# Altium integrated library Linear Technology Power Management Switching Regulator LTC1174-LTC3901.IntLib: 2647 symbols (part 183 of 364)
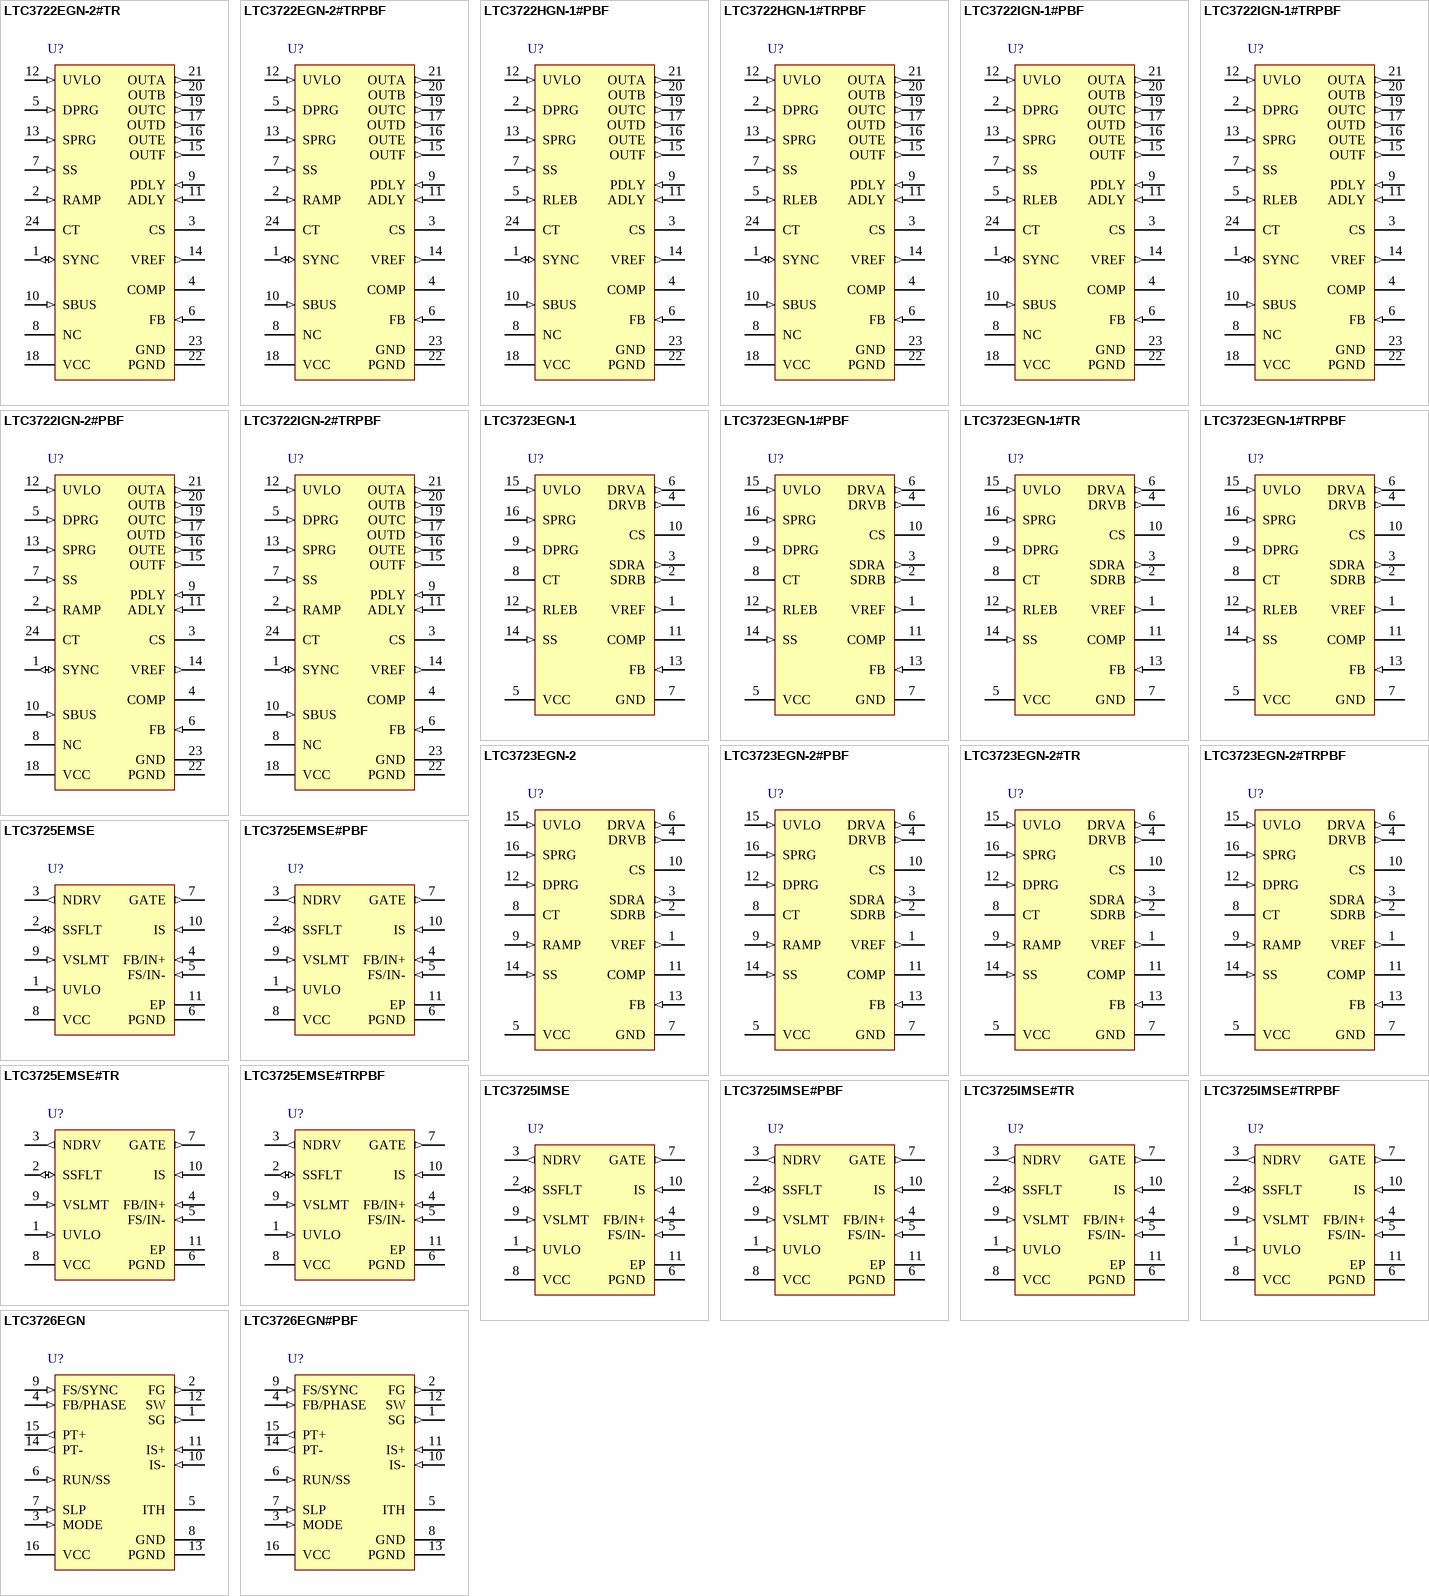
[diagram p308: symbols LTC3722EGN-2#TR to LTC3726EGN#PBF]

## LTC3725IMSE
designator U?
Single-Switch Forward Controller and Gate Driver, 10-pin SOP (MSE-10-EDP), -40 to 85 degC; Manufacturer: Linear Technology; PartNumber: LTC3725IMSE; Number of Outputs: 1; DatasheetVersion: Rev. A; PackageVersion: Rev. C, 08/2009; PackageReference: MSE-10; PackageDescription: 10-Pin Plastic MSOP, Exposed Die Pad, Body 3 x 3 mm, Pitch 0.5 mm; RoHS: FALSE; Mounting Technology: Surface Mount; ComponentLink1Description: Manufacturer URL; ComponentLink1URL: http://www.linear.com/; ComponentLink2Description: Datasheet; ComponentLink2URL: http://cds.linear.com/docs/en/datasheet/3725fa.pdf; ComponentLink3Description: Package Specification; ComponentLink3URL: http://cds.linear.com/docs/en/datasheet/3481fc.pdf
footprint LT-MSE-10-EDP-2060x1830TP_N (SOP, 10-Leads, Body 3.1x3.1mm, Pitch 0.5mm, Thermal Pad 2.17x1.94mm, IPC Medium Density)
footprint LT-MSE-10-EDP-2060x1830TP_L (SOP, 10-Leads, Body 3.1x3.1mm, Pitch 0.5mm, Thermal Pad 2.17x1.94mm, IPC High Density)
footprint LT-MSE-10-EDP-2060x1830TP_M (SOP, 10-Leads, Body 3.1x3.1mm, Pitch 0.5mm, Thermal Pad 2.17x1.94mm, IPC Low Density)
pins: 1 UVLO (in) "Undervoltage Lockout. Connect to a resistive voltage divider to monitor input voltage VIN. Enables converter operation for VUVLO > 1.242V. Hysteresis is a fixed 16mV hysteresis voltage with a 4.9uA hysteresis current that (See Datasheet)", 2 SSFLT (io) "Combination Soft-Start and Fault Indicator. A capacitor to GND sets the duty cycle ramp-up rate during start-up. To indicate a fault, the SSFLT pin is momentarily pulled up to within 1.3V of VCC.", 3 NDRV (out) "Drive for the External NMOS Linear Regulator. Connect to the gate of the NMOS and connect a pull up resistor to the input voltage (VIN). Optionally, to create a trickle charger omit the NMOS device and connect NDRV to VCC.", 4 FB/IN+ (in) "This pin has several functions. One winding of a pulse transformer is connected to the FB/IN+ and FS/IN- pins. The other pulse transformer winding is connected to the LTC3706. The LTC3725 automatically detects when the (See Datasheet)", 5 FS/IN- (in) "This pin has several functions. Place a resistor from this pin to GND to set the oscillator frequency. For secondary-side control with the LTC3706, connect one winding of the pulse transformer for operation as described for (See Datasheet)", 6 PGND (power) "Supply Return for the Bottom Gate Driver and the On-Chip Bridge Rectifier.", 7 GATE (out) "Gate Drive. Connect to the gate of the external MOSFET.", 8 VCC (power) "Main VCC Power for All Driver and Control Circuitry.", 9 VSLMT (in) "Volt-Second Limit. Form an R-C integrator by connecting a resistor from VIN to VSLMT and a capacitor from VSLMT to ground. The gate drive is turned off when the voltage on the VSLMT pin exceeds 1.26V.", 10 IS (in) "Input to the Overcurrent Comparator. Connect to the positive terminal of a current-sense resistor in series with the source of the ground-referenced bottom MOSFET.", 11 EP (power) "Signal Ground."

## LTC3725IMSE#PBF
designator U?
Single-Switch Forward Controller and Gate Driver, 10-pin SOP (MSE-10-EDP), -40 to 85 degC, Pb-Free; Manufacturer: Linear Technology; PartNumber: LTC3725IMSE#PBF; Number of Outputs: 1; DatasheetVersion: Rev. A; PackageVersion: Rev. C, 08/2009; PackageReference: MSE-10; PackageDescription: 10-Pin Plastic MSOP, Exposed Die Pad, Body 3 x 3 mm, Pitch 0.5 mm; Supplier 1: Digi-Key; Supplier Part Number 1: LTC3725IMSE#PBF-ND; Supplier 2: Farnell; Supplier Part Number 2: 2295194; RoHS: TRUE; Mounting Technology: Surface Mount; ComponentLink1Description: Manufacturer URL; ComponentLink1URL: http://www.linear.com/; ComponentLink2Description: Datasheet; ComponentLink2URL: http://cds.linear.com/docs/en/datasheet/3725fa.pdf; ComponentLink3Description: Package Specification; ComponentLink3URL: http://cds.linear.com/docs/en/datasheet/3481fc.pdf
footprint LT-MSE-10-EDP-2060x1830TP_N (SOP, 10-Leads, Body 3.1x3.1mm, Pitch 0.5mm, Thermal Pad 2.17x1.94mm, IPC Medium Density)
footprint LT-MSE-10-EDP-2060x1830TP_L (SOP, 10-Leads, Body 3.1x3.1mm, Pitch 0.5mm, Thermal Pad 2.17x1.94mm, IPC High Density)
footprint LT-MSE-10-EDP-2060x1830TP_M (SOP, 10-Leads, Body 3.1x3.1mm, Pitch 0.5mm, Thermal Pad 2.17x1.94mm, IPC Low Density)
pins: 1 UVLO (in) "Undervoltage Lockout. Connect to a resistive voltage divider to monitor input voltage VIN. Enables converter operation for VUVLO > 1.242V. Hysteresis is a fixed 16mV hysteresis voltage with a 4.9uA hysteresis current that (See Datasheet)", 2 SSFLT (io) "Combination Soft-Start and Fault Indicator. A capacitor to GND sets the duty cycle ramp-up rate during start-up. To indicate a fault, the SSFLT pin is momentarily pulled up to within 1.3V of VCC.", 3 NDRV (out) "Drive for the External NMOS Linear Regulator. Connect to the gate of the NMOS and connect a pull up resistor to the input voltage (VIN). Optionally, to create a trickle charger omit the NMOS device and connect NDRV to VCC.", 4 FB/IN+ (in) "This pin has several functions. One winding of a pulse transformer is connected to the FB/IN+ and FS/IN- pins. The other pulse transformer winding is connected to the LTC3706. The LTC3725 automatically detects when the (See Datasheet)", 5 FS/IN- (in) "This pin has several functions. Place a resistor from this pin to GND to set the oscillator frequency. For secondary-side control with the LTC3706, connect one winding of the pulse transformer for operation as described for (See Datasheet)", 6 PGND (power) "Supply Return for the Bottom Gate Driver and the On-Chip Bridge Rectifier.", 7 GATE (out) "Gate Drive. Connect to the gate of the external MOSFET.", 8 VCC (power) "Main VCC Power for All Driver and Control Circuitry.", 9 VSLMT (in) "Volt-Second Limit. Form an R-C integrator by connecting a resistor from VIN to VSLMT and a capacitor from VSLMT to ground. The gate drive is turned off when the voltage on the VSLMT pin exceeds 1.26V.", 10 IS (in) "Input to the Overcurrent Comparator. Connect to the positive terminal of a current-sense resistor in series with the source of the ground-referenced bottom MOSFET.", 11 EP (power) "Signal Ground."

## LTC3725IMSE#TR
designator U?
Single-Switch Forward Controller and Gate Driver, 10-pin SOP (MSE-10-EDP), -40 to 85 degC, Tape and Reel; Manufacturer: Linear Technology; PartNumber: LTC3725IMSE#TR; Number of Outputs: 1; DatasheetVersion: Rev. A; PackageVersion: Rev. C, 08/2009; PackageReference: MSE-10; PackageDescription: 10-Pin Plastic MSOP, Exposed Die Pad, Body 3 x 3 mm, Pitch 0.5 mm; Packing: Tape and Reel; RoHS: FALSE; Mounting Technology: Surface Mount; ComponentLink1Description: Manufacturer URL; ComponentLink1URL: http://www.linear.com/; ComponentLink2Description: Datasheet; ComponentLink2URL: http://cds.linear.com/docs/en/datasheet/3725fa.pdf; ComponentLink3Description: Package Specification; ComponentLink3URL: http://cds.linear.com/docs/en/datasheet/3481fc.pdf
footprint LT-MSE-10-EDP-2060x1830TP_N (SOP, 10-Leads, Body 3.1x3.1mm, Pitch 0.5mm, Thermal Pad 2.17x1.94mm, IPC Medium Density)
footprint LT-MSE-10-EDP-2060x1830TP_L (SOP, 10-Leads, Body 3.1x3.1mm, Pitch 0.5mm, Thermal Pad 2.17x1.94mm, IPC High Density)
footprint LT-MSE-10-EDP-2060x1830TP_M (SOP, 10-Leads, Body 3.1x3.1mm, Pitch 0.5mm, Thermal Pad 2.17x1.94mm, IPC Low Density)
pins: 1 UVLO (in) "Undervoltage Lockout. Connect to a resistive voltage divider to monitor input voltage VIN. Enables converter operation for VUVLO > 1.242V. Hysteresis is a fixed 16mV hysteresis voltage with a 4.9uA hysteresis current that (See Datasheet)", 2 SSFLT (io) "Combination Soft-Start and Fault Indicator. A capacitor to GND sets the duty cycle ramp-up rate during start-up. To indicate a fault, the SSFLT pin is momentarily pulled up to within 1.3V of VCC.", 3 NDRV (out) "Drive for the External NMOS Linear Regulator. Connect to the gate of the NMOS and connect a pull up resistor to the input voltage (VIN). Optionally, to create a trickle charger omit the NMOS device and connect NDRV to VCC.", 4 FB/IN+ (in) "This pin has several functions. One winding of a pulse transformer is connected to the FB/IN+ and FS/IN- pins. The other pulse transformer winding is connected to the LTC3706. The LTC3725 automatically detects when the (See Datasheet)", 5 FS/IN- (in) "This pin has several functions. Place a resistor from this pin to GND to set the oscillator frequency. For secondary-side control with the LTC3706, connect one winding of the pulse transformer for operation as described for (See Datasheet)", 6 PGND (power) "Supply Return for the Bottom Gate Driver and the On-Chip Bridge Rectifier.", 7 GATE (out) "Gate Drive. Connect to the gate of the external MOSFET.", 8 VCC (power) "Main VCC Power for All Driver and Control Circuitry.", 9 VSLMT (in) "Volt-Second Limit. Form an R-C integrator by connecting a resistor from VIN to VSLMT and a capacitor from VSLMT to ground. The gate drive is turned off when the voltage on the VSLMT pin exceeds 1.26V.", 10 IS (in) "Input to the Overcurrent Comparator. Connect to the positive terminal of a current-sense resistor in series with the source of the ground-referenced bottom MOSFET.", 11 EP (power) "Signal Ground."